# Altium footprint library USBB.PcbLib: 1 footprints
Each footprint in its own frame and in the unit in brackets; x right, y up, seen from the top. Pads: shape width x height; smd on the part's side, far side on the other; paste and mask are expansions set on the pad; w line width, h text height; cw(c..) or ccw(c..) is an arc to the next point about the centre after c.
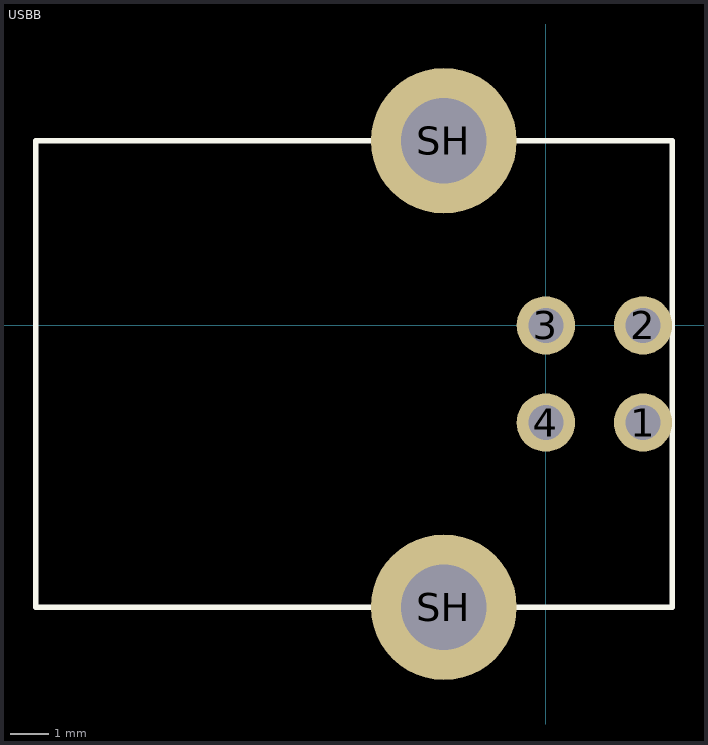
[diagram p0: the footprint, top view; thin cyan lines are the x and y axes]

## USBB [mil]
pads (6):
  round 60 hole 36: 1(100,-100) 2(100,0) 3(0,0) 4(0,-100)
  round 150 hole 88: SH(-105,-290) SH(-105,190)
Top Overlay:
  lines w6: -525,-290 -525,190 130,190 130,-290 -525,-290